# EAGLE library part MAX31341CETB+T (library MAX31341CETB+T)
Real Time Clock Serial I2C 64Bytes 10-Pin TDFN T/R Source: Datasheet <https://www.mouser.de/datasheet/2/256/MAX31341B-MAX31341C-1855887.pdf>
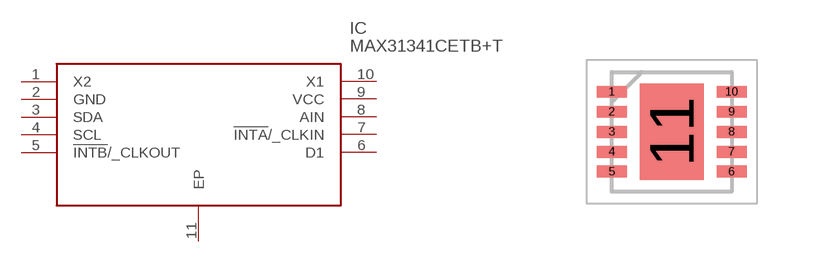
[diagram p0: symbol with the pads of SON50P300X300X80-11N; footprint SON50P300X300X80-11N]

Designator prefix IC

## MAX31341CETB+T (Description: Real Time Clock Serial I2C 64Bytes 10-Pin TDFN T/R; Height: 0.8mm; Manufacturer_Name: Analog Devices; Manufacturer_Part_Number: MAX31341CETB+T; Mouser_Part_Number: 700-MAX31341CETB+T; Mouser_Price-Stock: https://www.mouser.co.uk/ProductDetail/Maxim-Integrated/MAX31341CETB%2bT?qs=sPbYRqrBIVlk%252BGgVjH6I%2Fg%3D%3D)  [SON50P300X300X80-11N]
1  X2
2  GND
3  SDA
4  SCL
5  !INTB!/_CLKOUT
6  D1
7  !INTA!/_CLKIN
8  AIN
9  VCC
10  X1
11  EP

## Footprint SON50P300X300X80-11N (pad centres in mm)
10 TDFN 21-0137
smd 0.75 x 0.3: 1 -1.5,1; 2 -1.5,0.5; 3 -1.5,0; 4 -1.5,-0.5; 5 -1.5,-1; 6 1.5,-1; 7 1.5,-0.5; 8 1.5,0; 9 1.5,0.5; 10 1.5,1
smd 1.6 x 2.4: 11 0,0